# Altium footprint library misc.PcbLib: 20 footprints (part 2 of 2)
Each footprint in its own frame and in the unit in brackets; x right, y up, seen from the top. Pads: shape width x height; smd on the part's side, far side on the other; paste and mask are expansions set on the pad; w line width, h text height; cw(c..) or ccw(c..) is an arc to the next point about the centre after c.
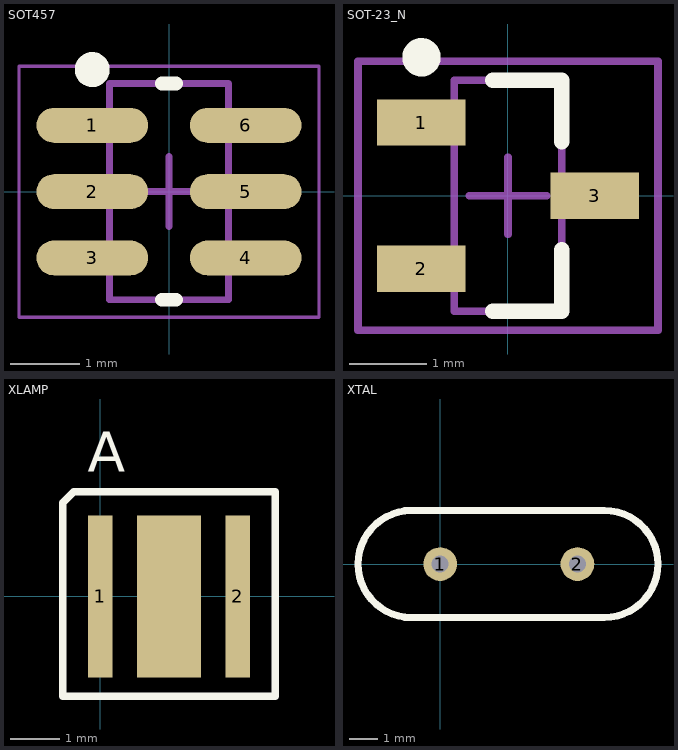
[diagram p1: the footprints below, top view; thin cyan lines are the x and y axes]

## SOT457 [mm]
height 1.1
pads (6):
  oval 1.6x0.5 smd: 1(-1.1,0.95) 2(-1.1,0) 3(-1.1,-0.95) 4(1.1,-0.95) 5(1.1,0) 6(1.1,0.95)
Top Overlay:
  circle w0.25: c-1.1,1.75 r0.125
  lines w0.2: -0.1,-1.55 0.1,-1.55 ; -0.1,1.55 0.1,1.55
Mechanical 13:
  lines w0.1: -0.85,-1.55 0.85,-1.55 0.85,1.55 -0.85,1.55 -0.85,-1.55
Mechanical 15:
  lines w0.05: -2.15,-1.8 2.15,-1.8 2.15,1.8 -2.15,1.8 -2.15,-1.8
  lines w0.1: -0.5,0 0.5,0 ; 0,-0.5 0,0.5
3D body: height 1.1, standoff 0.1, extent -0.85,-1.55 0.85,1.55

## SOT-23_N [mm] "SOT23, 3-Leads, Body 2.9x1.3mm, Pitch 0.95mm, Lead Span 2.5mm, IPC Medium Density"
height 1.1
pads (3):
  rect 1.15x0.6 smd: 1(-1.125,0.95) 2(-1.125,-0.95) 3(1.125,0)
Top Overlay:
  circle w0.25: c-1.125,1.8 r0.125
  lines w0.2: -0.2,-1.5 0.7,-1.5 0.7,-0.7 ; -0.2,1.5 0.7,1.5 0.7,0.7
Mechanical 13:
  lines w0.1: -0.7,-1.5 -0.7,1.5 0.7,1.5 0.7,-1.5 -0.7,-1.5
Mechanical 15:
  lines w0.1: -0.5,0 0.5,0 ; 0,-0.5 0,0.5 ; -1.95,-1.75 -1.95,1.75 1.95,1.75 1.95,-1.75 -1.95,-1.75
3D body: height 1.1, standoff 0, extent -0.7,-1.5 0.7,1.5

## XLAMP [mm]
height 3
pads (3):
  rect 0.5x3.3 smd: 1(0,0) 2(2.8,0)
  rect 1.3x3.3 smd: ""(1.397,0)
Top Overlay:
  lines w0.152: 3.531,2.134 -0.533,2.134 -0.762,1.905 -0.762,-2.032 3.556,-2.032 3.556,2.134
  text "A" at -0.254,2.54 h0.81

## XTAL [mm]
height 0.4
pads (2):
  round 1.2 hole 0.6: 1(0,0) 2(4.88,0)
Top Overlay:
  lines w0.254: -1.27,-1.895 5.842,-1.895 ccw(c5.842,0.005) 7.742,0.005 ccw(c5.842,0.005) 5.842,1.905 -1.27,1.905 ; -1.021,-1.9 cw(c-1.021,0) -2.921,0 cw(c-1.021,0) -1.021,1.9